# EAGLE library part 722-842 (library con-wago_7.5mm)
Serie 722, Federleiste mit abgewinkelten Einlötstiften / Series 722, Female connector with angled solder pins Polzahl / Pole No.: 12 Rastermaß / Pitch: 7.5 mm Bemessungsspannung / Rated Voltage: 630 V Nennstrom / Nominal Current: 12 A Lötstiftlänge: / Solder Pin Length: 5 mm Farbe / Color: lichtgrau / light gray Stand: 01.01.2012. Die jeweils aktuellen Daten zu diesem Artikel finden Sie in unserem Produktkatalog, den Sie unter www.wago.com einsehen können. As of: 01/01/2012. Please find the newest data for this article in our product catalogue, which can be viewed under www.wago.com.
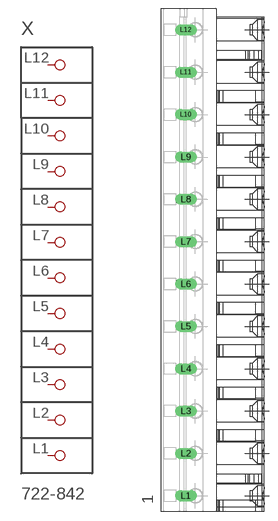
[diagram p46: symbol with the pads of P-722-842; footprint P-722-842]

Designator prefix X

## 722-842  [P-722-842]
L1  P1
L2  P2
L3  P3
L4  P4
L5  P5
L6  P6
L7  P7
L8  P8
L9  P9
L10  P10
L11  P11
L12  P12

## Footprint P-722-842 (pad centres in mm)
drill 1.3 long: L1 -5.186,-41.7; L2 -5.186,-34.2; L3 -5.186,-26.7; L4 -5.186,-19.2; L5 -5.186,-11.7; L6 -5.186,-4.2; L7 -5.186,3.3; L8 -5.186,10.8; L9 -5.186,18.3; L10 -5.186,25.8; L11 -5.186,33.3; L12 -5.186,40.8